# EAGLE library part PCA9306 (library hackerscouts)
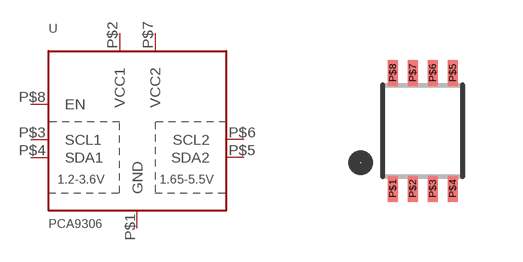
[diagram p1: symbol with the pads of VSSOP-8; footprint VSSOP-8]

Designator prefix -

## PCA9306  [VSSOP-8]
P$1  GND
P$2  VCC1
P$3  SCL1
P$4  SDA1
P$5  SDA2
P$6  SCL2
P$7  VCC2
P$8  EN

## Footprint VSSOP-8 (pad centres in mm)
smd 0.25 x 0.65: P$1 -0.75,-1.45; P$2 -0.25,-1.45; P$3 0.25,-1.45; P$4 0.75,-1.45; P$5 0.75,1.45; P$6 0.25,1.45; P$7 -0.25,1.45; P$8 -0.75,1.45